# Altium schematic symbol library MAX976ESA+.SchLib: 1 symbol
Pins are listed as number, name and electrical type; pins without a type are passive.

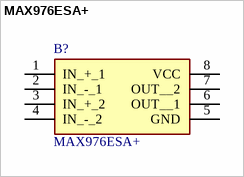
[diagram p0: symbol MAX976ESA+]

## MAX976ESA+
designator B?
MAX976ESA+, Dual Comparator Push-Pull 20ns 2.7  5.5 V 8-Pin SO; Manufacturer_Name: Analog Devices; Geometry.Height: 1.75mm; Manufacturer_Part_Number: MAX976ESA+; Mouser Part Number: 700-MAX976ESA; Mouser Price/Stock: https://www.mouser.co.uk/ProductDetail/Analog-Devices-Maxim-Integrated/MAX976ESA%2b?qs=1THa7WoU59E0ZNiXLt8Seg%3D%3D; Arrow Part Number: MAX976ESA+; Arrow Price/Stock: https://www.arrow.com/en/products/max976esa/maxim-integrated?region=nac; Datasheet Link: http://datasheets.maximintegrated.com/en/ds/MAX976-MAX998.pdf
footprint SOIC127P600X175-8N
pins: 1 IN_+_1, 2 IN_-_1, 3 IN_+_2, 4 IN_-_2, 5 GND, 6 OUT__1, 7 OUT__2, 8 VCC